# EAGLE library part SY8253AIC (library Regulators)
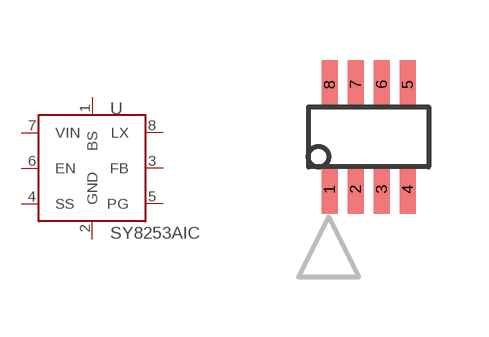
[diagram p0: symbol with the pads of SOT23-8; footprint SOT23-8]

Designator prefix U

## SY8253AICI (MF: SILERGY; MPN: SY8253AIC)  [SOT23-8]
1  BS
2  GND
3  FB
4  SS
5  PG
6  EN
7  VIN
8  LX

## Footprint SOT23-8 (pad centres in mm)
smd 0.4 x 1.22: 1 -0.975,-1.31; 2 -0.325,-1.31; 3 0.325,-1.31; 4 0.975,-1.31; 5 0.975,1.31; 6 0.325,1.31; 7 -0.325,1.31; 8 -0.975,1.31